# EAGLE library part ADAS1000 (library scono)
http://www.analog.com/media/en/reference-design-documentation/reference-designs/CN0308.pdf
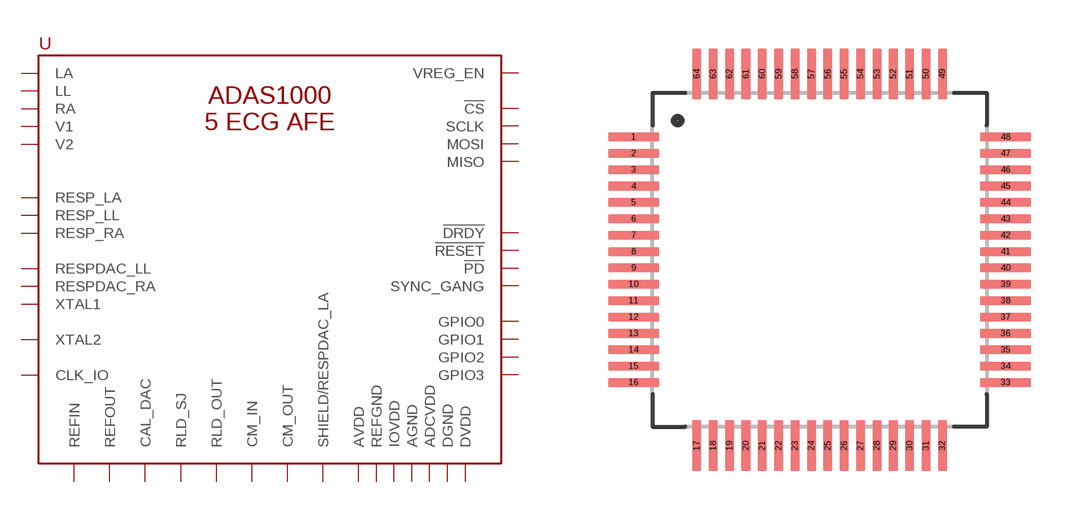
[diagram p42: symbol with the pads of QFP50P1200X1200X160-65N; footprint QFP50P1200X1200X160-65N]

Designator prefix U

## ADAS1000  [QFP50P1200X1200X160-65N]
2  AGND
3  RESPDAC_RA
4  RESP_RA
5  RESP_LL
6  RESP_LA
7  REFGND
8  REFOUT
9  REFIN
10  LA
11  LL
12  RA
13  V1
14  V2
15  AGND
18  AVDD
19  CM_IN
20  RLD_OUT
21  RLD_SJ
22  CM_OUT
23  AVDD
24  AGND
25  AGND
26  ADCVDD
27  XTAL1
28  XTAL2
29  CLK_IO
30  DVDD
31  DGND
34  DGND
35  IOVDD
36  GPIO0
37  GPIO1
38  GPIO2
39  GPIO3
40  DGND
41  !CS
42  !DRDY
43  MOSI
44  SCLK
45  MISO
46  IOVDD
47  DGND
50  DGND
51  DVDD
52  SYNC_GANG
53  !PD
54  !RESET
55  ADCVDD
56  AGND
57  AGND
58  AVDD
59  VREG_EN
60  SHIELD/RESPDAC_LA
61  CAL_DAC
62  RESPDAC_LL
63  AVDD

## Footprint QFP50P1200X1200X160-65N (pad centres in mm)
smd 1.56 x 0.28: 1 -5.68,3.75; 2 -5.68,3.25; 3 -5.68,2.75; 4 -5.68,2.25; 5 -5.68,1.75; 6 -5.68,1.25; 7 -5.68,0.75; 8 -5.68,0.25; 9 -5.68,-0.25; 10 -5.68,-0.75; 11 -5.68,-1.25; 12 -5.68,-1.75; 13 -5.68,-2.25; 14 -5.68,-2.75; 15 -5.68,-3.25; 16 -5.68,-3.75; 33 5.68,-3.75; 34 5.68,-3.25; 35 5.68,-2.75; 36 5.68,-2.25; 37 5.68,-1.75; 38 5.68,-1.25; 39 5.68,-0.75; 40 5.68,-0.25; 41 5.68,0.25; 42 5.68,0.75; 43 5.68,1.25; 44 5.68,1.75; 45 5.68,2.25; 46 5.68,2.75; 47 5.68,3.25; 48 5.68,3.75
smd 0.28 x 1.56: 17 -3.75,-5.68; 18 -3.25,-5.68; 19 -2.75,-5.68; 20 -2.25,-5.68; 21 -1.75,-5.68; 22 -1.25,-5.68; 23 -0.75,-5.68; 24 -0.25,-5.68; 25 0.25,-5.68; 26 0.75,-5.68; 27 1.25,-5.68; 28 1.75,-5.68; 29 2.25,-5.68; 30 2.75,-5.68; 31 3.25,-5.68; 32 3.75,-5.68; 49 3.75,5.68; 50 3.25,5.68; 51 2.75,5.68; 52 2.25,5.68; 53 1.75,5.68; 54 1.25,5.68; 55 0.75,5.68; 56 0.25,5.68; 57 -0.25,5.68; 58 -0.75,5.68; 59 -1.25,5.68; 60 -1.75,5.68; 61 -2.25,5.68; 62 -2.75,5.68; 63 -3.25,5.68; 64 -3.75,5.68